# EAGLE library part MW2 (library ads4)
MW2 Revision E Board
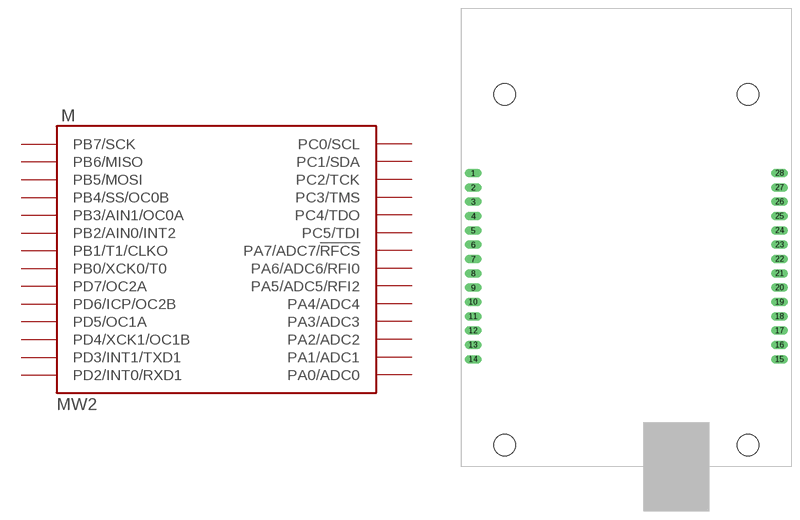
[diagram p98: symbol with the pads of MW2; footprint MW2]

Designator prefix M

## MW2  [MW2]
1  PD7/OC2A
2  PD6/ICP/OC2B
3  PD5/OC1A
4  PD4/XCK1/OC1B
5  PD3/INT1/TXD1
6  PD2/INT0/RXD1
7  PB0/XCK0/T0
8  PB1/T1/CLKO
9  PB2/AIN0/INT2
10  PB3/AIN1/OC0A
11  PB4/SS/OC0B
12  PB5/MOSI
13  PB6/MISO
14  PB7/SCK
15  PA0/ADC0
16  PA1/ADC1
17  PA2/ADC2
18  PA3/ADC3
19  PA4/ADC4
20  PA5/ADC5/RFI2
21  PA6/ADC6/RFI0
22  PA7/ADC7/!RFCS
23  PC5/TDI
24  PC4/TDO
25  PC3/TMS
26  PC2/TCK
27  PC1/SDA
28  PC0/SCL

## Footprint MW2 (pad centres in mm)
Outline and connectors of an MW2 Revision E board
drill 1.016 long: 1 2.032,52.07; 2 2.032,49.53; 3 2.032,46.99; 4 2.032,44.45; 5 2.032,41.91; 6 2.032,39.37; 7 2.032,36.83; 8 2.032,34.29; 9 2.032,31.75; 10 2.032,29.21; 11 2.032,26.67; 12 2.032,24.13; 13 2.032,21.59; 14 2.032,19.05; 15 56.388,19.05; 16 56.388,21.59; 17 56.388,24.13; 18 56.388,26.67; 19 56.388,29.21; 20 56.388,31.75; 21 56.388,34.29; 22 56.388,36.83; 23 56.388,39.37; 24 56.388,41.91; 25 56.388,44.45; 26 56.388,46.99; 27 56.388,49.53; 28 56.388,52.07
hole 3.81 at 7.62,3.81
hole 3.81 at 50.8,3.81
hole 3.81 at 50.8,66.04
hole 3.81 at 7.62,66.04